# Altium integrated library AF RF and IF Antenna.IntLib: 2 symbols
Pins are listed as number, name and electrical type; pins without a type are passive.

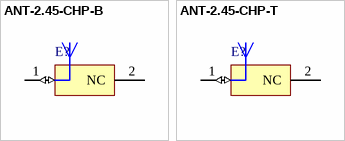
[diagram p0: symbols ANT-2.45-CHP-B to ANT-2.45-CHP-T]

## ANT-2.45-CHP-B
designator E?
2.45GHz Ultra-Compact, LTCC, Chip Antenna, Bulk; PCB_Layout: Complies with manufacturer's recommendation.; Published: 14-Mar-2008; DatasheetVersion: Apr-2006; PackageVersion: Apr-2006; PackageReference: ANT-2.45-CHP; Publisher: Altium Limited; PackageDescription: Chip Antenna, LTCC; 2 Leads, Body 6.5 x 2.2 mm (LxW); ComponentLink1Description: Manufacturer Link; ComponentLink1URL: http://www.antennafactor.com/; ComponentLink2Description: Datasheet; ComponentLink2URL: http://www.antennafactor.com/documents/ANT-xxx-CHP-x_Data_Guide.pdf
footprint ANT-2.45-CHP (Chip Antenna; 2 Leads, Body 6.5x2.2mm (LxW))
pins: 1 FEED (io), 2 NC

## ANT-2.45-CHP-T
designator E?
2.45GHz Ultra-Compact, LTCC, Chip Antenna, Tape & Reel; PCB_Layout: Complies with manufacturer's recommendation.; Published: 14-Mar-2008; DatasheetVersion: Apr-2006; PackageVersion: Apr-2006; PackageReference: ANT-2.45-CHP; Publisher: Altium Limited; PackageDescription: Chip Antenna, LTCC; 2 Leads, Body 6.5 x 2.2 mm (LxW); ComponentLink1Description: Manufacturer Link; ComponentLink1URL: http://www.antennafactor.com/; ComponentLink2Description: Datasheet; ComponentLink2URL: http://www.antennafactor.com/documents/ANT-xxx-CHP-x_Data_Guide.pdf
footprint ANT-2.45-CHP (Chip Antenna; 2 Leads, Body 6.5x2.2mm (LxW))
pins: 1 FEED (io), 2 NC